# EAGLE library part 78M6610 (library LVK)
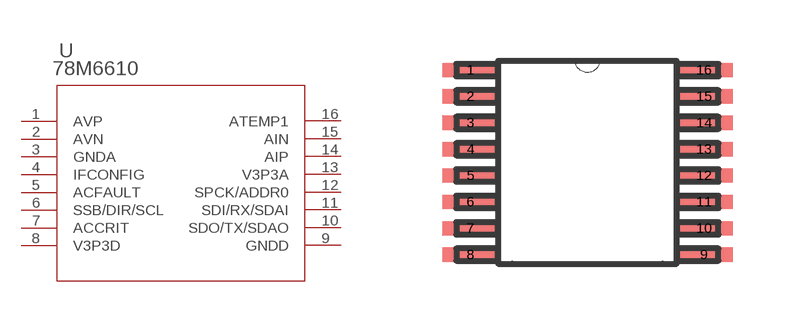
[diagram p4: symbol with the pads of 21_0066J_16; footprint 21_0066J_16]

Designator prefix -

## 78M6610  [21_0066J_16]
1  AVP  pas
2  AVN  pas
3  GNDA  pwr
4  IFCONFIG  pas
5  ACFAULT  pas
6  SSB/DIR/SCL  pas
7  ACCRIT  pas
8  V3P3D  pwr
9  GNDD  pwr
10  SDO/TX/SDAO  pas
11  SDI/RX/SDAI  pas
12  SPCK/ADDR0  pas
13  V3P3A  pwr
14  AIP  pas
15  AIN  pas
16  ATEMP1  pas

## Footprint 21_0066J_16 (pad centres in mm)
smd 1.422 x 0.356: 1 -2.921,2.311; 2 -2.921,1.651; 3 -2.921,0.991; 4 -2.921,0.33; 5 -2.921,-0.33; 6 -2.921,-0.991; 7 -2.921,-1.651; 8 -2.921,-2.311; 9 2.921,-2.311; 10 2.921,-1.651; 11 2.921,-0.991; 12 2.921,-0.33; 13 2.921,0.33; 14 2.921,0.991; 15 2.921,1.651; 16 2.921,2.311